# EAGLE library part NRF24 (library NRF24)
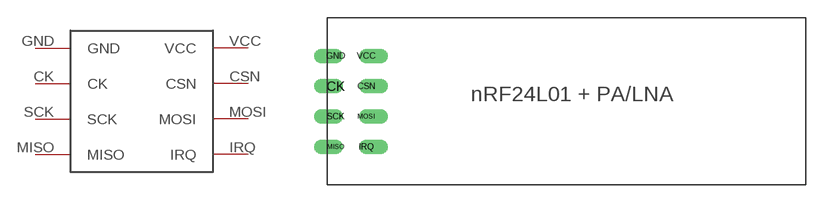
[diagram p0: symbol with the pads of NRF24_FOOTPRINT; footprint NRF24_FOOTPRINT]

Designator prefix -

## NRF24  [NRF24_FOOTPRINT]
CK  CK
CSN  CSN
GND  GND
IRQ  IRQ
MISO  MISO
MOSI  MOSI
SCK  SCK
VCC  VCC

## Footprint NRF24_FOOTPRINT (pad centres in mm)
drill 0.7 offset: CK -1.27,1.27; CSN 1.27,1.27; GND -1.27,3.81; IRQ 1.27,-3.81; MISO -1.27,-3.81; MOSI 1.27,-1.27; SCK -1.27,-1.27; VCC 1.27,3.81